# Altium integrated library CAP 1206 4.7 uF 10V.IntLib: 1 symbol
Pins are listed as number, name and electrical type; pins without a type are passive.

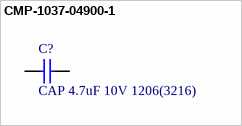
[diagram p0: symbol CMP-1037-04900-1]

## CMP-1037-04900-1
designator C?, comment CAP 4.7uF 10V 1206(3216)
CAP 4.7uF 10V ±10% 1206 (3216 Metric) Thickness 1.45mm SMD; Case-EIA: 1206; Case-Metric: 3216; Tolerance: Â±10%; Rated Voltage: 10 V; Technology: SMT; Value: 4.7uF; Max Thickness: 1.45 mm
footprint CAPC1206(3216)150_M (Chip Capacitor, Body 3.2x1.6mm, Height 1.5mm, IPC Low Density)
footprint CAPC1206(3216)150_L (Chip Capacitor, Body 3.2x1.6mm, Height 1.5mm, IPC High Density)
footprint CAPC1206(3216)150_N (Chip Capacitor, Body 3.2x1.6mm, Height 1.5mm, IPC Medium Density)
pins: 1, 2
1 alternate drawing of the same symbol